# Altium footprint library EliteSTM32.PcbLib: 39 footprints (part 1 of 3)
Each footprint in its own frame and in the unit in brackets; x right, y up, seen from the top. Pads: shape width x height; smd on the part's side, far side on the other; paste and mask are expansions set on the pad; w line width, h text height; cw(c..) or ccw(c..) is an arc to the next point about the centre after c.
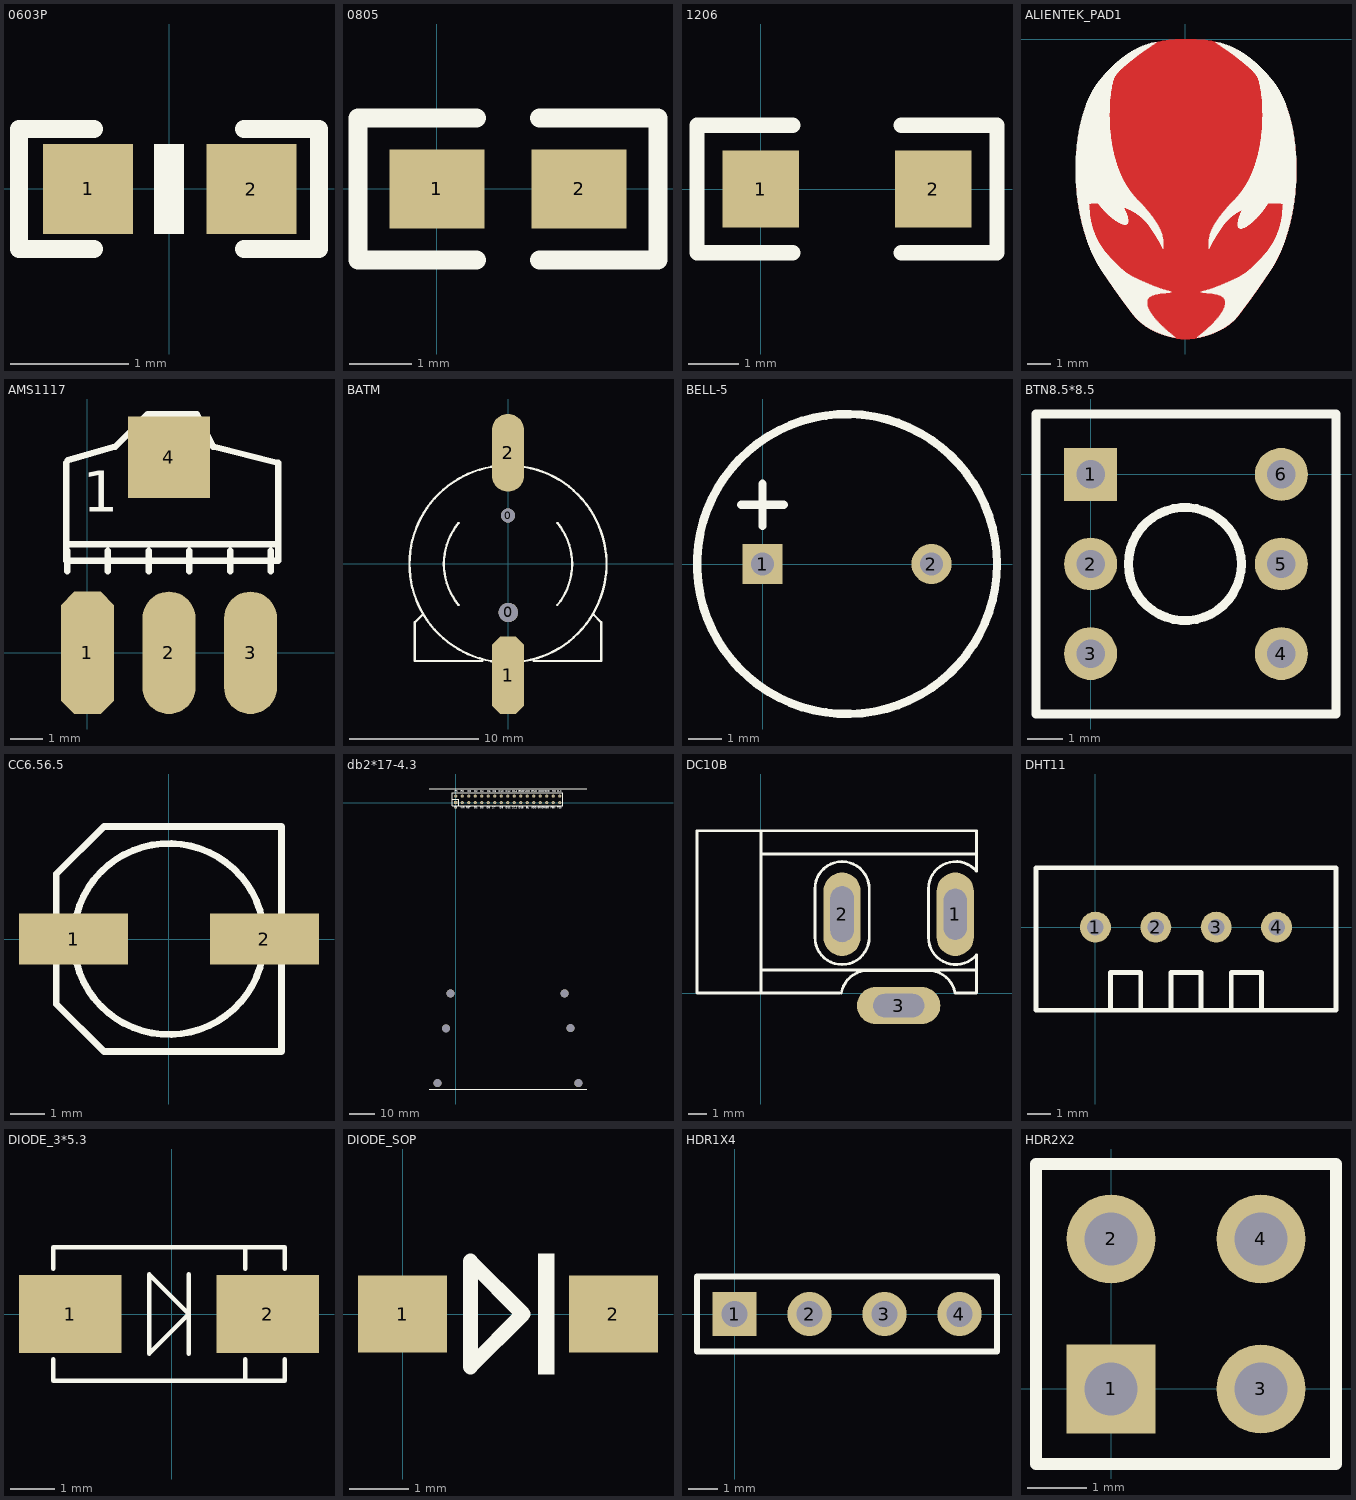
[diagram p0: the footprints below, top view; thin cyan lines are the x and y axes]

## 0603P [mil]
pads (2):
  rect 30x30 smd: 1(-27,0) 2(27.5,-0.06)
Top Overlay:
  region: 5,-15.06 5,14.94 -5,14.94 -5,-15.06
  lines w6: -25,-20.06 -50,-20.06 -50,19.94 -25,19.94 ; 25,-20.06 50,-20.06 50,19.94 25,19.94

## 0805 [mil]
pads (2):
  rect 60x50 smd: 1(0,-0.06) 2(90,-0.06)
Top Overlay:
  lines w12: 25,-45.06 -50,-45.06 -50,44.94 25,44.94 ; 65,-45.06 140,-45.06 140,44.94 65,44.94

## 1206 [mil]
pads (2):
  rect 60x60 smd: 1(0,0) 2(135,0)
Top Overlay:
  lines w12: 25,-50 -50,-50 -50,50 25,50 ; 110,-50 185,-50 185,50 110,50

## ALIENTEK_PAD1 [mil]
Top Layer:
  lines w0.55: -180.03,-234.3 183.7,-234.3 ; -180.03,-233.75 183.7,-233.75 ; -180.03,-233.2 183.7,-233.2 ; -180.03,-232.65 183.7,-232.65 ; -180.03,-232.1 183.7,-232.1 ; -180.03,-231.55 183.7,-231.55 ; -180.03,-231 183.7,-231 ; -180.03,-230.45 183.7,-230.45 ; -180.03,-229.9 183.7,-229.9 ; -180.03,-229.35 183.7,-229.35 ; -180.03,-228.8 183.7,-228.8 ; -180.03,-228.25 183.7,-228.25 ; -180.03,-227.7 183.7,-227.7 ; -180.03,-227.15 183.7,-227.15 ; -180.03,-226.6 183.7,-226.6 ; -180.03,-226.05 183.7,-226.05 ; -180.03,-225.5 183.7,-225.5 ; -180.03,-224.95 183.7,-224.95 ; -180.03,-224.4 183.7,-224.4 ; -180.03,-223.85 183.7,-223.85 ; -180.03,-223.3 183.7,-223.3 ; -180.03,-222.75 183.7,-222.75 ; -180.03,-222.2 183.7,-222.2 ; -180.03,-221.65 183.7,-221.65 ; -180.03,-221.1 183.7,-221.1 ; -180.03,-220.55 183.7,-220.55 ; -180.03,-220 183.7,-220 ; -180.03,-219.45 183.7,-219.45 ; -180.03,-218.9 183.7,-218.9 ; -180.03,-218.35 183.7,-218.35 ; -180.03,-217.8 183.7,-217.8 ; -180.03,-217.25 183.7,-217.25 ; -180.03,-216.7 183.7,-216.7 ; -180.03,-216.15 183.7,-216.15 ; -180.03,-215.6 183.7,-215.6 ; -180.03,-215.05 183.7,-215.05 ; -180.03,-214.5 183.7,-214.5 ; -180.03,-213.95 183.7,-213.95 ; -180.03,-213.4 183.7,-213.4 ; -180.03,-212.85 183.7,-212.85 ; -180.03,-212.3 183.7,-212.3 ; -180.03,-211.75 183.7,-211.75 ; -180.03,-211.2 183.7,-211.2 ; -180.03,-210.65 183.7,-210.65 ; -180.03,-210.1 183.7,-210.1 ; -180.03,-209.55 183.7,-209.55 ; -180.03,-209 183.7,-209 ; -180.03,-208.45 183.7,-208.45 ; -180.03,-207.9 183.7,-207.9 ; -180.03,-207.35 183.7,-207.35 ; -180.03,-206.8 183.7,-206.8 ; -180.03,-206.25 183.7,-206.25 ; -180.03,-205.7 183.7,-205.7 ; -180.03,-205.15 183.7,-205.15 ; -180.03,-204.6 183.7,-204.6 ; -180.03,-204.05 183.7,-204.05 ; -180.03,-203.5 183.7,-203.5 ; -180.03,-202.95 183.7,-202.95 ; -180.03,-202.4 183.7,-202.4 ; -180.03,-201.85 183.7,-201.85 ; -180.03,-201.3 183.7,-201.3 ; -180.03,-200.75 183.7,-200.75 ; -180.03,-200.2 183.7,-200.2 ; -180.03,-199.65 183.7,-199.65 ; -180.03,-199.1 183.7,-199.1 ; -180.03,-198.55 183.7,-198.55 ; -180.03,-198 183.7,-198 ; -180.03,-197.45 183.7,-197.45 ; -179.48,-243.65 183.15,-243.65 ; -179.48,-243.1 183.15,-243.1 ; -179.48,-242.55 183.15,-242.55 ; -179.48,-242 183.15,-242 ; -179.48,-241.45 183.15,-241.45 ; -179.48,-240.9 183.15,-240.9 ; -179.48,-240.35 183.15,-240.35 ; -179.48,-239.8 183.15,-239.8 ; -179.48,-239.25 183.15,-239.25 ; -179.48,-238.7 183.15,-238.7 ; -179.48,-238.15 183.15,-238.15 ; -179.48,-237.6 183.15,-237.6 ; -179.48,-237.05 183.15,-237.05 ; -179.48,-236.5 183.15,-236.5 ; -179.48,-235.95 183.15,-235.95 ; -179.48,-235.4 183.15,-235.4 ; -179.48,-234.85 183.15,-234.85 ; -179.48,-196.9 183.15,-196.9 ; -179.48,-196.35 183.15,-196.35 ; -179.48,-195.8 183.15,-195.8 ; -179.48,-195.25 183.15,-195.25 ; -179.48,-194.7 183.15,-194.7 ; -179.48,-194.15 183.15,-194.15 ; -179.48,-193.6 183.15,-193.6 ; -179.48,-193.05 183.15,-193.05 ; -179.48,-192.5 183.15,-192.5 ; -179.48,-191.95 183.15,-191.95 ; -179.48,-191.4 183.15,-191.4 ; -179.48,-190.85 183.15,-190.85 ; -179.48,-190.3 183.15,-190.3 ; -179.48,-189.75 183.15,-189.75 ; -179.48,-189.2 183.15,-189.2 ; -179.48,-188.65 183.15,-188.65 ; -178.93,-250.8 182.6,-250.8 ; -178.93,-250.25 182.6,-250.25 ; -178.93,-249.7 182.6,-249.7 ; -178.93,-249.15 182.6,-249.15 ; -178.93,-248.6 182.6,-248.6 ; -178.93,-248.05 182.6,-248.05 ; -178.93,-247.5 182.6,-247.5 ; -178.93,-246.95 182.6,-246.95 ; -178.93,-246.4 182.6,-246.4 ; -178.93,-245.85 182.6,-245.85 ; -178.93,-245.3 182.6,-245.3 ; -178.93,-244.75 182.6,-244.75 ; -178.93,-244.2 182.6,-244.2 ; -178.93,-188.1 182.6,-188.1 ; -178.93,-187.55 182.6,-187.55 ; -178.93,-187 182.6,-187 ; -178.93,-186.45 182.6,-186.45 ; -178.93,-185.9 182.6,-185.9 ; -178.93,-185.35 182.6,-185.35 ; -178.93,-184.8 182.6,-184.8 ; -178.93,-184.25 182.6,-184.25 ; -178.93,-183.7 182.6,-183.7 ; -178.93,-183.15 182.6,-183.15 ; -178.93,-182.6 182.6,-182.6 ; -178.38,-256.3 182.05,-256.3 ; -178.38,-255.75 182.05,-255.75 ; -178.38,-255.2 182.05,-255.2 ; -178.38,-254.65 182.05,-254.65 ; -178.38,-254.1 182.05,-254.1 ; -178.38,-253.55 182.05,-253.55 ; -178.38,-253 182.05,-253 ; -178.38,-252.45 182.05,-252.45 ; -178.38,-251.9 182.05,-251.9 ; -178.38,-251.35 182.05,-251.35 ; -178.38,-182.05 182.05,-182.05 ; -178.38,-181.5 182.05,-181.5 ; -178.38,-180.95 182.05,-180.95 ; -178.38,-180.4 182.05,-180.4 ; -178.38,-179.85 182.05,-179.85 ; -178.38,-179.3 182.05,-179.3 ; -178.38,-178.75 182.05,-178.75 ; -178.38,-178.2 182.05,-178.2 ; -178.38,-177.65 182.05,-177.65 ; -178.38,-177.1 182.05,-177.1 ; -177.83,-261.25 181.5,-261.25 ; -177.83,-260.7 181.5,-260.7 ; -177.83,-260.15 181.5,-260.15 ; -177.83,-259.6 181.5,-259.6 ; -177.83,-259.05 181.5,-259.05 ; -177.83,-258.5 181.5,-258.5 ; -177.83,-257.95 181.5,-257.95 ; -177.83,-257.4 181.5,-257.4 ; -177.83,-256.85 181.5,-256.85 ; -177.83,-176.55 181.5,-176.55 ; -177.83,-176 181.5,-176 ; -177.83,-175.45 181.5,-175.45 ; -177.83,-174.9 181.5,-174.9 ; -177.83,-174.35 181.5,-174.35 ; -177.83,-173.8 181.5,-173.8 ; -177.83,-173.25 181.5,-173.25 ; -177.83,-172.7 181.5,-172.7 ; -177.83,-172.15 181.5,-172.15 ; -177.28,-265.65 180.95,-265.65 ; -177.28,-265.1 180.95,-265.1 ; -177.28,-264.55 180.95,-264.55 ; -177.28,-264 180.95,-264 ; -177.28,-263.45 180.95,-263.45 ; -177.28,-262.9 180.95,-262.9 ; -177.28,-262.35 180.95,-262.35 ; -177.28,-261.8 180.95,-261.8 ; -177.28,-171.6 180.95,-171.6 ; -177.28,-171.05 180.95,-171.05 ; -177.28,-170.5 180.95,-170.5 ; -177.28,-169.95 180.95,-169.95 ; -177.28,-169.4 180.95,-169.4 ; -177.28,-168.85 180.95,-168.85 ; -177.28,-168.3 180.95,-168.3 ; -177.28,-167.75 180.95,-167.75 ; -176.73,-269.5 180.4,-269.5 ; -176.73,-268.95 180.4,-268.95 ; -176.73,-268.4 180.4,-268.4 ; -176.73,-267.85 180.4,-267.85 ; -176.73,-267.3 180.4,-267.3 ; -176.73,-266.75 180.4,-266.75 ; -176.73,-266.2 180.4,-266.2 ; -176.73,-167.2 180.4,-167.2 ; -176.73,-166.65 180.4,-166.65 ; -176.73,-166.1 180.4,-166.1 ; -176.73,-165.55 180.4,-165.55 ; -176.73,-165 180.4,-165 ; -176.73,-164.45 180.4,-164.45 ; -176.73,-163.9 180.4,-163.9 ; -176.18,-273.35 179.85,-273.35 ; -176.18,-272.8 179.85,-272.8 ; -176.18,-272.25 179.85,-272.25 ; -176.18,-271.7 179.85,-271.7 ; -176.18,-271.15 179.85,-271.15 ; -176.18,-270.6 179.85,-270.6 ; -176.18,-270.05 179.85,-270.05 ; -176.18,-163.35 179.85,-163.35 ; -176.18,-162.8 179.85,-162.8 ; -176.18,-162.25 179.85,-162.25 ; -176.18,-161.7 179.85,-161.7 ; -176.18,-161.15 179.85,-161.15 ; -176.18,-160.6 179.85,-160.6 ; -175.63,-277.2 179.3,-277.2 ; -175.63,-276.65 179.3,-276.65 ; -175.63,-276.1 179.3,-276.1 ; -175.63,-275.55 179.3,-275.55 ; -175.63,-275 179.3,-275 ; -175.63,-274.45 179.3,-274.45 ; -175.63,-273.9 179.3,-273.9 ; -175.63,-160.05 179.3,-160.05 ; -175.63,-159.5 179.3,-159.5 ; -175.63,-158.95 179.3,-158.95 ; -175.63,-158.4 179.3,-158.4 ; -175.63,-157.85 179.3,-157.85 ; -175.63,-157.3 179.3,-157.3 ; -175.08,-280.5 178.75,-280.5 ; -175.08,-279.95 178.75,-279.95 ; -175.08,-279.4 178.75,-279.4 ; -175.08,-278.85 178.75,-278.85 ; -175.08,-278.3 178.75,-278.3 ; -175.08,-277.75 178.75,-277.75 ; -175.08,-156.75 178.75,-156.75 ; -175.08,-156.2 178.75,-156.2 ; -175.08,-155.65 178.75,-155.65 ; -175.08,-155.1 178.75,-155.1 ; -175.08,-154.55 178.75,-154.55 ; -175.08,-154 178.75,-154 ; -174.53,-283.25 178.2,-283.25 ; -174.53,-282.7 178.2,-282.7 ; -174.53,-282.15 178.2,-282.15 ; -174.53,-281.6 178.2,-281.6 ; -174.53,-281.05 178.2,-281.05 ; -174.53,-153.45 178.2,-153.45 ; -174.53,-152.9 178.2,-152.9 ; -174.53,-152.35 178.2,-152.35 ; -174.53,-151.8 178.2,-151.8 ; -174.53,-151.25 178.2,-151.25 ; -173.98,-286.55 177.65,-286.55 ; -173.98,-286 177.65,-286 ; -173.98,-285.45 177.65,-285.45 ; -173.98,-284.9 177.65,-284.9 ; -173.98,-284.35 177.65,-284.35 ; -173.98,-283.8 177.65,-283.8 ; -173.98,-150.7 177.65,-150.7 ; -173.98,-150.15 177.65,-150.15 ; -173.98,-149.6 177.65,-149.6 ; -173.98,-149.05 177.65,-149.05 ; -173.98,-148.5 177.65,-148.5 ; -173.98,-147.95 177.65,-147.95 ; -173.43,-289.3 177.1,-289.3 ; -173.43,-288.75 177.1,-288.75 ; -173.43,-288.2 177.1,-288.2 ; -173.43,-287.65 177.1,-287.65 ; -173.43,-287.1 177.1,-287.1 ; -173.43,-147.4 177.1,-147.4 ; -173.43,-146.85 177.1,-146.85 ; -173.43,-146.3 177.1,-146.3 ; -173.43,-145.75 177.1,-145.75 ; -172.88,-292.05 176.55,-292.05 ; -172.88,-291.5 176.55,-291.5 ; -172.88,-290.95 176.55,-290.95 ; -172.88,-290.4 176.55,-290.4 ; -172.88,-289.85 176.55,-289.85 ; -172.88,-145.2 176.55,-145.2 ; -172.88,-144.65 176.55,-144.65 ; -172.88,-144.1 176.55,-144.1 ; -172.88,-143.55 176.55,-143.55 ; -172.88,-143 176.55,-143 ; -172.33,-294.8 176,-294.8 ; -172.33,-294.25 176,-294.25 ; -172.33,-293.7 176,-293.7 ; -172.33,-293.15 176,-293.15 ; -172.33,-292.6 176,-292.6 ; -172.33,-142.45 176,-142.45 ; -172.33,-141.9 176,-141.9 ; -172.33,-141.35 176,-141.35 ; -172.33,-140.8 176,-140.8 ; -171.78,-297 175.45,-297 ; -171.78,-296.45 175.45,-296.45 ; -171.78,-295.9 175.45,-295.9 ; -171.78,-295.35 175.45,-295.35 ; -171.78,-140.25 175.45,-140.25 ; -171.78,-139.7 175.45,-139.7 ; -171.78,-139.15 175.45,-139.15 ; -171.78,-138.6 175.45,-138.6 ; -171.78,-138.05 175.45,-138.05 ; -171.23,-299.75 174.9,-299.75 ; -171.23,-299.2 174.9,-299.2 ; -171.23,-298.65 174.9,-298.65 ; -171.23,-298.1 174.9,-298.1 ; -171.23,-297.55 174.9,-297.55 ; -171.23,-137.5 174.9,-137.5 ; -171.23,-136.95 174.9,-136.95 ; -171.23,-136.4 174.9,-136.4 ; -171.23,-135.85 174.9,-135.85 ; -170.68,-301.95 174.35,-301.95 ; -170.68,-301.4 174.35,-301.4 ; -170.68,-300.85 174.35,-300.85 ; -170.68,-300.3 174.35,-300.3 ; -170.68,-135.3 174.35,-135.3 ; -170.68,-134.75 174.35,-134.75 ; -170.68,-134.2 174.35,-134.2 ; -170.68,-133.65 174.35,-133.65 ; -170.13,-304.15 173.8,-304.15 ; -170.13,-303.6 173.8,-303.6 ; -170.13,-303.05 173.8,-303.05 ; -170.13,-302.5 173.8,-302.5 ; -170.13,-133.1 173.8,-133.1 ; -170.13,-132.55 173.8,-132.55 ; -170.13,-132 173.8,-132 ; -169.58,-306.35 173.25,-306.35 ; -169.58,-305.8 173.25,-305.8 ; -169.58,-305.25 173.25,-305.25 ; -169.58,-304.7 173.25,-304.7 ; -169.58,-131.45 173.25,-131.45 ; -169.58,-130.9 173.25,-130.9 ; -169.58,-130.35 173.25,-130.35 ; -169.58,-129.8 173.25,-129.8 ; -169.03,-308.55 172.7,-308.55 ; -169.03,-308 172.7,-308 ; -169.03,-307.45 172.7,-307.45 ; -169.03,-306.9 172.7,-306.9 ; -169.03,-129.25 172.7,-129.25 ; -169.03,-128.7 172.7,-128.7 ; -169.03,-128.15 172.7,-128.15 ; -169.03,-127.6 172.7,-127.6 ; -168.48,-310.75 172.15,-310.75 ; -168.48,-310.2 172.15,-310.2 ; -168.48,-309.65 172.15,-309.65 ; -168.48,-309.1 172.15,-309.1 ; -168.48,-127.05 172.15,-127.05 ; -168.48,-126.5 172.15,-126.5 ; -168.48,-125.95 172.15,-125.95 ; -167.93,-312.4 171.6,-312.4 ; -167.93,-311.85 171.6,-311.85 ; -167.93,-311.3 171.6,-311.3 ; -167.93,-125.4 171.6,-125.4 ; -167.93,-124.85 171.6,-124.85 ; -167.93,-124.3 171.6,-124.3 ; -167.93,-123.75 171.6,-123.75 ; -167.38,-314.05 171.05,-314.05 ; -167.38,-313.5 171.05,-313.5 ; -167.38,-312.95 171.05,-312.95 ; -167.38,-123.2 171.05,-123.2 ; -167.38,-122.65 171.05,-122.65 ; -167.38,-122.1 171.05,-122.1 ; -166.83,-316.25 170.5,-316.25 ; -166.83,-315.7 170.5,-315.7 ; -166.83,-315.15 170.5,-315.15 ; -166.83,-314.6 170.5,-314.6 ; -166.83,-121.55 170.5,-121.55 ; -166.83,-121 170.5,-121 ; -166.83,-120.45 170.5,-120.45 ; -166.28,-317.9 169.95,-317.9 ; -166.28,-317.35 169.95,-317.35 ; -166.28,-316.8 169.95,-316.8 ; -166.28,-119.9 169.95,-119.9 ; -166.28,-119.35 169.95,-119.35 ; -166.28,-118.8 169.95,-118.8 ; -165.73,-319.55 169.4,-319.55 ; -165.73,-319 169.4,-319 ; -165.73,-318.45 169.4,-318.45 ; -165.73,-118.25 169.4,-118.25 ; -165.73,-117.7 169.4,-117.7 ; -165.73,-117.15 169.4,-117.15 ; -165.18,-321.75 168.85,-321.75 ; -165.18,-321.2 168.85,-321.2 ; -165.18,-320.65 168.85,-320.65 ; -165.18,-320.1 168.85,-320.1 ; -165.18,-116.6 168.85,-116.6 ; -165.18,-116.05 168.85,-116.05 ; -165.18,-115.5 168.85,-115.5 ; -164.63,-323.4 168.3,-323.4 ; -164.63,-322.85 168.3,-322.85 ; -164.63,-322.3 168.3,-322.3 ; -164.63,-114.95 168.3,-114.95 ; -164.63,-114.4 168.3,-114.4 ; -164.63,-113.85 168.3,-113.85 ; -164.08,-325.05 167.75,-325.05 ; -164.08,-324.5 167.75,-324.5 ; -164.08,-323.95 167.75,-323.95 ; -164.08,-113.3 167.75,-113.3 ; -164.08,-112.75 167.75,-112.75 ; -164.08,-112.2 167.75,-112.2 ; -163.53,-326.7 167.2,-326.7 ; -163.53,-326.15 167.2,-326.15 ; -163.53,-325.6 167.2,-325.6 ; -163.53,-111.65 167.2,-111.65 ; -163.53,-111.1 167.2,-111.1 ; -162.98,-328.35 166.65,-328.35 ; -162.98,-327.8 166.65,-327.8 ; -162.98,-327.25 166.65,-327.25 ; -162.98,-110.55 166.65,-110.55 ; -162.98,-110 166.65,-110 ; -162.98,-109.45 166.65,-109.45 ; -162.43,-330 166.1,-330 ; -162.43,-329.45 166.1,-329.45 ; -162.43,-328.9 166.1,-328.9 ; -162.43,-108.9 166.1,-108.9 ; -162.43,-108.35 166.1,-108.35 ; -162.43,-107.8 166.1,-107.8 ; -161.88,-331.65 165.55,-331.65 ; -161.88,-331.1 165.55,-331.1 ; -161.88,-330.55 165.55,-330.55 ; -161.88,-107.25 165.55,-107.25 ; -161.88,-106.7 165.55,-106.7 ; -161.33,-333.3 165,-333.3 ; -161.33,-332.75 165,-332.75 ; -161.33,-332.2 165,-332.2 ; -161.33,-106.15 165,-106.15 ; -161.33,-105.6 165,-105.6 ; -161.33,-105.05 165,-105.05 ; -160.78,-334.95 164.45,-334.95 ; -160.78,-334.4 164.45,-334.4 ; -160.78,-333.85 164.45,-333.85 ; -160.78,-104.5 164.45,-104.5 ; -160.78,-103.95 164.45,-103.95 ; -160.23,-336.05 163.9,-336.05 ; -160.23,-335.5 163.9,-335.5 ; -160.23,-103.4 163.9,-103.4 ; -160.23,-102.85 163.9,-102.85 ; -159.68,-337.7 163.35,-337.7 ; -159.68,-337.15 163.35,-337.15 ; -159.68,-336.6 163.35,-336.6 ; -159.68,-102.3 163.35,-102.3 ; -159.68,-101.75 163.35,-101.75 ; -159.68,-101.2 163.35,-101.2 ; -159.13,-339.35 162.8,-339.35 ; -159.13,-338.8 162.8,-338.8 ; -159.13,-338.25 162.8,-338.25 ; -159.13,-100.65 162.8,-100.65 ; -159.13,-100.1 162.8,-100.1 ; -158.58,-340.45 162.25,-340.45 ; -158.58,-339.9 162.25,-339.9 ; -158.58,-99.55 162.25,-99.55 ; -158.58,-99 162.25,-99 ; -158.03,-342.1 161.7,-342.1 ; -158.03,-341.55 161.7,-341.55 ; -158.03,-341 161.7,-341 ; -158.03,-98.45 161.7,-98.45 ; -158.03,-97.9 161.7,-97.9 ; -157.48,-343.2 161.15,-343.2 ; -157.48,-342.65 161.15,-342.65 ; -157.48,-97.35 161.15,-97.35 ; -157.48,-96.8 161.15,-96.8 ; -156.93,-344.85 160.6,-344.85 ; -156.93,-344.3 160.6,-344.3 ; -156.93,-343.75 160.6,-343.75 ; -156.93,-96.25 160.6,-96.25 ; -156.93,-95.7 160.6,-95.7 ; -156.93,-95.15 160.6,-95.15 ; -156.38,-345.95 160.05,-345.95 ; -156.38,-345.4 160.05,-345.4 ; -156.38,-94.6 160.05,-94.6 ; -156.38,-94.05 160.05,-94.05 ; -155.83,-347.6 159.5,-347.6 ; -155.83,-347.05 159.5,-347.05 ; -155.83,-346.5 159.5,-346.5 ; -155.83,-93.5 159.5,-93.5 ; -155.83,-92.95 159.5,-92.95 ; -155.28,-348.7 158.95,-348.7 ; -155.28,-348.15 158.95,-348.15 ; -155.28,-92.4 158.95,-92.4 ; -155.28,-91.85 158.95,-91.85 ; -154.73,-349.8 158.4,-349.8 ; -154.73,-349.25 158.4,-349.25 ; -154.73,-91.3 158.4,-91.3 ; -154.18,-351.45 157.85,-351.45 ; -154.18,-350.9 157.85,-350.9 ; -154.18,-350.35 157.85,-350.35 ; -154.18,-90.75 157.85,-90.75 ; -154.18,-90.2 157.85,-90.2 ; -153.63,-352.55 157.3,-352.55 ; -153.63,-352 157.3,-352 ; -153.63,-89.65 157.3,-89.65 ; -153.63,-89.1 157.3,-89.1 ; -153.08,-353.65 156.75,-353.65 ; -153.08,-353.1 156.75,-353.1 ; -153.08,-88.55 156.75,-88.55 ; -153.08,-88 156.75,-88 ; -152.53,-354.75 156.2,-354.75 ; -152.53,-354.2 156.2,-354.2 ; -152.53,-87.45 156.2,-87.45 ; -152.53,-86.9 156.2,-86.9 ; -151.98,-355.85 155.65,-355.85 ; -151.98,-355.3 155.65,-355.3 ; -151.98,-86.35 155.65,-86.35 ; -151.98,-85.8 155.65,-85.8 ; -151.43,-356.95 155.1,-356.95 ; -151.43,-356.4 155.1,-356.4 ; -151.43,-85.25 155.1,-85.25 ; -150.88,-358.6 154.55,-358.6 ; -150.88,-358.05 154.55,-358.05 ; -150.88,-357.5 154.55,-357.5 ; -150.88,-84.7 154.55,-84.7 ; -150.88,-84.15 154.55,-84.15 ; -150.33,-359.7 154,-359.7 ; -150.33,-359.15 154,-359.15 ; -150.33,-83.6 154,-83.6 ; -150.33,-83.05 154,-83.05 ; -149.78,-360.8 153.45,-360.8 ; -149.78,-360.25 153.45,-360.25 ; -149.78,-82.5 153.45,-82.5 ; -149.23,-361.9 152.9,-361.9 ; -149.23,-361.35 152.9,-361.35 ; -149.23,-81.95 152.9,-81.95 ; -149.23,-81.4 152.9,-81.4 ; -148.68,-363 152.35,-363 ; -148.68,-362.45 152.35,-362.45 ; -148.68,-80.85 152.35,-80.85 ; -148.13,-364.1 151.8,-364.1 ; -148.13,-363.55 151.8,-363.55 ; -148.13,-80.3 151.8,-80.3 ; -148.13,-79.75 151.8,-79.75 ; -147.58,-365.2 151.25,-365.2 ; -147.58,-364.65 151.25,-364.65 ; -147.58,-79.2 151.25,-79.2 ; -147.58,-78.65 151.25,-78.65 ; -147.03,-365.75 150.7,-365.75 ; -147.03,-78.1 150.7,-78.1 ; -146.48,-366.85 150.15,-366.85 ; -146.48,-366.3 150.15,-366.3 ; -146.48,-77.55 150.15,-77.55 ; -146.48,-77 150.15,-77 ; -145.93,-367.95 149.6,-367.95 ; -145.93,-367.4 149.6,-367.4 ; -145.93,-76.45 149.6,-76.45 ; -145.38,-369.05 149.05,-369.05 ; -145.38,-368.5 149.05,-368.5 ; -145.38,-75.9 149.05,-75.9 ; -144.83,-370.15 148.5,-370.15 ; -144.83,-369.6 148.5,-369.6 ; -144.83,-75.35 148.5,-75.35 ; -144.83,-74.8 148.5,-74.8 ; -144.28,-371.25 147.95,-371.25 ; -144.28,-370.7 147.95,-370.7 ; -144.28,-74.25 147.95,-74.25 ; -143.73,-371.8 147.4,-371.8 ; -143.73,-73.7 147.4,-73.7 ; -143.18,-372.9 146.85,-372.9 ; -143.18,-372.35 146.85,-372.35 ; -143.18,-73.15 146.85,-73.15 ; -143.18,-72.6 146.85,-72.6 ; -142.63,-374 146.3,-374 ; -142.63,-373.45 146.3,-373.45 ; -142.63,-72.05 146.3,-72.05 ; -142.08,-375.1 145.75,-375.1 ; -142.08,-374.55 145.75,-374.55 ; -142.08,-71.5 145.75,-71.5 ; -141.53,-375.65 145.2,-375.65 ; -141.53,-70.95 145.2,-70.95 ; -141.53,-70.4 145.2,-70.4 ; -140.98,-376.75 144.65,-376.75 ; -140.98,-376.2 144.65,-376.2 ; -140.98,-69.85 144.65,-69.85 ; -140.43,-377.3 144.1,-377.3 ; -140.43,-69.3 144.1,-69.3 ; -139.88,-378.4 143.55,-378.4 ; -139.88,-377.85 143.55,-377.85 ; -139.88,-68.75 143.55,-68.75 ; -139.33,-379.5 143,-379.5 ; -139.33,-378.95 143,-378.95 ; -139.33,-68.2 143,-68.2 ; -139.33,-67.65 143,-67.65 ; -138.78,-380.05 142.45,-380.05 ; -138.78,-67.1 142.45,-67.1 ; -138.23,-381.15 141.9,-381.15 ; -138.23,-380.6 141.9,-380.6 ; -138.23,-66.55 141.9,-66.55 ; -137.68,-381.7 141.35,-381.7 ; -137.68,-66 141.35,-66 ; -137.13,-382.8 140.8,-382.8 ; -137.13,-382.25 140.8,-382.25 ; -137.13,-65.45 140.8,-65.45 ; -136.58,-383.35 140.25,-383.35 ; -136.58,-64.9 140.25,-64.9 ; -136.58,-64.35 140.25,-64.35 ; -136.03,-384.45 139.7,-384.45 ; -136.03,-383.9 139.7,-383.9 ; -136.03,-63.8 139.7,-63.8 ; -135.48,-385 139.15,-385 ; -135.48,-63.25 139.15,-63.25 ; -134.93,-386.1 138.6,-386.1 ; -134.93,-385.55 138.6,-385.55 ; -134.93,-62.7 138.6,-62.7 ; -134.38,-386.65 138.05,-386.65 ; -134.38,-62.15 138.05,-62.15 ; -133.83,-387.75 137.5,-387.75 ; -133.83,-387.2 137.5,-387.2 ; -133.83,-61.6 137.5,-61.6 ; -133.28,-388.3 136.95,-388.3 ; -133.28,-61.05 136.95,-61.05 ; -133.28,-60.5 136.95,-60.5 ; -132.73,-389.4 136.4,-389.4 ; -132.73,-388.85 136.4,-388.85 ; -132.73,-59.95 136.4,-59.95 ; -132.18,-389.95 135.85,-389.95 ; -132.18,-59.4 135.85,-59.4 ; -131.63,-391.05 135.3,-391.05 ; -131.63,-390.5 135.3,-390.5 ; -131.63,-58.85 135.3,-58.85 ; -131.08,-391.6 134.75,-391.6 ; -131.08,-58.3 134.75,-58.3 ; -130.53,-392.7 134.2,-392.7 ; -130.53,-392.15 134.2,-392.15 ; -130.53,-57.75 134.2,-57.75 ; -129.98,-393.25 133.65,-393.25 ; -129.98,-57.2 133.65,-57.2 ; -129.43,-394.35 133.1,-394.35 ; -129.43,-393.8 133.1,-393.8 ; -129.43,-56.65 133.1,-56.65 ; -128.88,-394.9 132.55,-394.9 ; -128.88,-56.1 132.55,-56.1 ; -128.33,-396 132,-396 ; -128.33,-395.45 132,-395.45 ; -128.33,-55.55 132,-55.55 ; -128.33,-55 132,-55 ; -127.78,-396.55 131.45,-396.55 ; -127.78,-54.45 131.45,-54.45 ; -127.23,-397.65 130.9,-397.65 ; -127.23,-397.1 130.9,-397.1 ; -127.23,-53.9 130.9,-53.9 ; -126.68,-398.2 130.35,-398.2 ; -126.68,-53.35 130.35,-53.35 ; -126.13,-399.3 129.8,-399.3 ; -126.13,-398.75 129.8,-398.75 ; -126.13,-52.8 129.8,-52.8 ; -125.58,-399.85 129.25,-399.85 ; -125.58,-52.25 129.25,-52.25 ; -125.03,-400.95 128.7,-400.95 ; -125.03,-400.4 128.7,-400.4 ; -125.03,-51.7 128.7,-51.7 ; -124.48,-401.5 128.15,-401.5 ; -124.48,-51.15 128.15,-51.15 ; -123.93,-402.05 127.6,-402.05 ; -123.93,-50.6 127.6,-50.6 ; -123.38,-403.15 127.05,-403.15 ; -123.38,-402.6 127.05,-402.6 ; -123.38,-50.05 127.05,-50.05 ; -122.83,-403.7 126.5,-403.7 ; -122.83,-49.5 126.5,-49.5 ; -122.28,-404.8 125.95,-404.8 ; -122.28,-404.25 125.95,-404.25 ; -122.28,-48.95 125.95,-48.95 ; -121.73,-405.35 125.4,-405.35 ; -121.73,-48.4 125.4,-48.4 ; -121.18,-406.45 124.85,-406.45 ; -121.18,-405.9 124.85,-405.9 ; -121.18,-47.85 124.85,-47.85 ; -120.63,-407 124.3,-407 ; -120.63,-47.3 124.3,-47.3 ; -120.08,-408.1 123.75,-408.1 ; -120.08,-407.55 123.75,-407.55 ; -120.08,-46.75 123.75,-46.75 ; -119.53,-408.65 123.2,-408.65 ; -119.53,-46.2 123.2,-46.2 ; -118.98,-409.2 122.65,-409.2 ; -118.98,-45.65 122.65,-45.65 ; -118.43,-410.3 122.1,-410.3 ; -118.43,-409.75 122.1,-409.75 ; -118.43,-45.1 122.1,-45.1 ; -117.88,-411.4 121.55,-411.4 ; -117.88,-410.85 121.55,-410.85 ; -117.88,-44.55 121.55,-44.55 ; -117.33,-411.95 121,-411.95 ; -116.78,-413.05 120.45,-413.05 ; -116.78,-412.5 120.45,-412.5 ; -116.78,-44 120.45,-44 ; -116.23,-413.6 119.9,-413.6 ; -116.23,-43.45 119.9,-43.45 ; -115.68,-414.15 119.35,-414.15 ; -115.68,-42.9 119.35,-42.9 ; -115.13,-415.25 118.8,-415.25 ; -115.13,-414.7 118.8,-414.7 ; -115.13,-42.35 118.8,-42.35 ; -114.58,-415.8 118.25,-415.8 ; -114.58,-41.8 118.25,-41.8 ; -114.03,-416.9 117.7,-416.9 ; -114.03,-416.35 117.7,-416.35 ; -114.03,-41.25 117.7,-41.25 ; -113.48,-417.45 117.15,-417.45 ; -113.48,-40.7 117.15,-40.7 ; -112.93,-418 116.6,-418 ; -112.93,-40.15 116.6,-40.15 ; -112.38,-419.1 116.05,-419.1 ; -112.38,-418.55 116.05,-418.55 ; -112.38,-39.6 116.05,-39.6 ; -111.83,-419.65 115.5,-419.65 ; -111.28,-420.75 114.95,-420.75 ; -111.28,-420.2 114.95,-420.2 ; -111.28,-39.05 114.95,-39.05 ; -110.73,-421.3 114.4,-421.3 ; -110.73,-38.5 114.4,-38.5 ; -110.18,-421.85 113.85,-421.85 ; -110.18,-37.95 113.85,-37.95 ; -109.63,-422.95 113.3,-422.95 ; -109.63,-422.4 113.3,-422.4 ; -109.63,-37.4 113.3,-37.4 ; -109.08,-423.5 112.75,-423.5 ; -109.08,-36.85 112.75,-36.85 ; -108.53,-424.6 112.2,-424.6 ; -108.53,-424.05 112.2,-424.05 ; -107.98,-425.15 111.65,-425.15 ; -107.98,-36.3 111.65,-36.3 ; -107.43,-425.7 111.1,-425.7 ; -107.43,-35.75 111.1,-35.75 ; -106.88,-426.8 110.55,-426.8 ; -106.88,-426.25 110.55,-426.25 ; -106.88,-35.2 110.55,-35.2 ; -106.33,-427.35 110,-427.35 ; -106.33,-34.65 110,-34.65 ; -105.78,-428.45 109.45,-428.45 ; -105.78,-427.9 109.45,-427.9 ; -105.23,-429 108.9,-429 ; -105.23,-34.1 108.9,-34.1 ; -104.68,-429.55 108.35,-429.55 ; -104.68,-33.55 108.35,-33.55 ; -104.13,-430.65 107.8,-430.65 ; -104.13,-430.1 107.8,-430.1 ; -104.13,-33 107.8,-33 ; -103.58,-431.2 107.25,-431.2 ; -103.58,-32.45 107.25,-32.45 ; -103.03,-432.3 106.7,-432.3 ; -103.03,-431.75 106.7,-431.75 ; -102.48,-432.85 106.15,-432.85 ; -102.48,-31.9 106.15,-31.9 ; -101.93,-433.4 105.6,-433.4 ; -101.93,-31.35 105.6,-31.35 ; -101.38,-434.5 105.05,-434.5 ; -101.38,-433.95 105.05,-433.95 ; -101.38,-30.8 105.05,-30.8 ; -100.83,-435.05 104.5,-435.05 ; -100.28,-435.6 103.95,-435.6 ; -100.28,-30.25 103.95,-30.25 ; -99.73,-436.7 103.4,-436.7 ; -99.73,-436.15 103.4,-436.15 ; -99.73,-29.7 103.4,-29.7 ; -99.18,-437.25 102.85,-437.25 ; -99.18,-29.15 102.85,-29.15 ; -98.63,-437.8 102.3,-437.8 ; -98.08,-438.9 101.75,-438.9 ; -98.08,-438.35 101.75,-438.35 ; -98.08,-28.6 101.75,-28.6 ; -97.53,-439.45 101.2,-439.45 ; -97.53,-28.05 101.2,-28.05 ; -96.98,-440 100.65,-440 ; -96.43,-441.1 100.1,-441.1 ; -96.43,-440.55 100.1,-440.55 ; -96.43,-27.5 100.1,-27.5 ; -95.88,-441.65 99.55,-441.65 ; -95.88,-26.95 99.55,-26.95 ; -95.33,-442.2 99,-442.2 ; -94.78,-443.3 98.45,-443.3 ; -94.78,-442.75 98.45,-442.75 ; -94.78,-26.4 98.45,-26.4 ; -94.23,-443.85 97.9,-443.85 ; -94.23,-25.85 97.9,-25.85 ; -93.68,-444.4 97.35,-444.4 ; -93.13,-445.5 96.8,-445.5 ; -93.13,-444.95 96.8,-444.95 ; -93.13,-25.3 96.8,-25.3 ; -92.58,-446.05 96.25,-446.05 ; -92.58,-24.75 96.25,-24.75 ; -92.03,-446.6 95.7,-446.6 ; -91.48,-447.7 95.15,-447.7 ; -91.48,-447.15 95.15,-447.15 ; -91.48,-24.2 95.15,-24.2 ; -90.93,-448.25 94.6,-448.25 ; -90.93,-23.65 94.6,-23.65 ; -90.38,-449.35 93.5,-449.35 ; -90.38,-448.8 94.05,-448.8 ; -89.83,-449.9 93.5,-449.9 ; -89.83,-23.1 93.5,-23.1 ; -89.28,-450.45 92.95,-450.45 ; -89.28,-22.55 92.95,-22.55 ; -88.73,-451.55 92.4,-451.55 ; -88.73,-451 92.95,-451 ; -88.18,-452.1 91.85,-452.1 ; -88.18,-22 91.85,-22 ; -87.63,-452.65 91.3,-452.65 ; -87.08,-453.2 90.75,-453.2 ; -87.08,-21.45 90.75,-21.45 ; -86.53,-454.3 90.2,-454.3 ; -86.53,-453.75 90.75,-453.75 ; -86.53,-20.9 90.2,-20.9 ; -85.98,-454.85 89.65,-454.85 ; -85.43,-455.4 89.1,-455.4 ; -85.43,-20.35 89.1,-20.35 ; -84.88,-455.95 89.1,-455.95 ; -84.33,-457.05 88,-457.05 ; -84.33,-456.5 88.55,-456.5 ; -84.33,-19.8 88,-19.8 ; -83.78,-457.6 87.45,-457.6 ; -83.23,-458.15 87.45,-458.15 ; -83.23,-19.25 86.9,-19.25 ; -82.68,-458.7 86.9,-458.7 ; -82.68,-18.7 86.35,-18.7 ; -82.13,-459.25 86.35,-459.25 ; -81.58,-459.8 85.8,-459.8 ; -81.58,-18.15 85.25,-18.15 ; -81.03,-460.35 85.25,-460.35 ; -80.48,-460.9 84.7,-460.9 ; -80.48,-17.6 84.15,-17.6 ; -79.93,-461.45 84.15,-461.45 ; -79.38,-462 83.6,-462 ; -79.38,-17.05 83.6,-17.05 ; -78.83,-462.55 83.05,-462.55 ; -78.28,-463.1 82.5,-463.1 ; -78.28,-16.5 82.5,-16.5 ; -77.73,-463.65 81.95,-463.65 ; -77.18,-464.2 81.4,-464.2 ; -77.18,-15.95 81.4,-15.95 ; -76.63,-464.75 80.85,-464.75 ; -76.08,-465.3 80.3,-465.3 ; -76.08,-15.4 79.75,-15.4 ; -75.53,-465.85 79.75,-465.85 ; -74.98,-466.4 79.2,-466.4 ; -74.98,-14.85 0,-14.85 78.65,-14.85 ; -74.43,-466.95 78.65,-466.95 ; -73.88,-467.5 78.1,-467.5 ; -73.88,-14.3 0,-14.3 77.55,-14.3 ; -72.78,-468.05 77.55,-468.05 ; -72.23,-468.6 76.45,-468.6 ; -72.23,-13.75 0,-13.75 75.9,-13.75 ; -71.68,-469.15 75.9,-469.15 ; -71.13,-469.7 75.35,-469.7 ; -71.13,-13.2 0,-13.2 74.8,-13.2 ; -70.58,-470.25 74.8,-470.25 ; -70.03,-12.65 0,-12.65 73.7,-12.65 ; -69.48,-470.8 73.7,-470.8 ; -68.93,-471.35 73.15,-471.35 ; -68.93,-12.1 0,-12.1 72.05,-12.1 ; -68.38,-471.9 72.6,-471.9 ; -67.28,-472.45 71.5,-472.45 ; -67.28,-11.55 0,-11.55 70.95,-11.55 ; -66.73,-473 70.95,-473 ; -66.18,-473.55 70.4,-473.55 ; -65.63,-11 0,-11 69.3,-11 ; -65.08,-474.1 69.3,-474.1 ; -64.53,-474.65 68.75,-474.65 ; -64.53,-10.45 0,-10.45 67.65,-10.45 ; -63.43,-475.2 67.65,-475.2 ; -62.88,-475.75 67.1,-475.75 ; -62.88,-9.9 0,-9.9 66,-9.9 ; -61.78,-476.3 66,-476.3 ; -61.23,-476.85 65.45,-476.85 ; -61.23,-9.35 -2.5,-9.35 0,-9.35 64.35,-9.35 ; -60.13,-477.4 64.35,-477.4 ; -59.58,-8.8 -2.5,-8.8 0,-8.8 63.25,-8.8 ; -59.03,-477.95 63.8,-477.95 ; -57.93,-478.5 62.15,-478.5 ; -57.93,-8.25 -2.5,-8.25 0,-8.25 61.6,-8.25 ; -57.38,-479.05 61.05,-479.05 ; -56.28,-479.6 59.95,-479.6 ; -55.73,-7.7 -2.5,-7.7 0,-7.7 59.95,-7.7 ; -55.18,-480.15 58.85,-480.15 ; -54.08,-480.7 58.3,-480.7 ; -54.08,-7.15 -2.5,-7.15 0,-7.15 58.3,-7.15 ; -53.53,-481.25 57.2,-481.25 ; -52.43,-481.8 56.1,-481.8 ; -51.88,-6.6 -2.5,-6.6 0,-6.6 56.65,-6.6 ; -51.33,-482.35 54.45,-482.35 ; -50.23,-482.9 -50.05,-482.9 ; -50.23,-6.05 -2.5,-6.05 0,-6.05 55,-6.05 ; -49.13,-483.45 -48.95,-483.45 ; -49.13,-482.9 53.35,-482.9 ; -48.03,-483.45 52.25,-483.45 ; -48.03,-5.5 -2.5,-5.5 0,-5.5 53.35,-5.5 ; -46.93,-484 51.15,-484 ; -45.28,-484.55 49.5,-484.55 ; -45.28,-4.95 -2.5,-4.95 0,-4.95 51.15,-4.95 ; -44.18,-485.1 48.4,-485.1 ; -43.08,-485.65 47.3,-485.65 ; -43.08,-4.4 -2.5,-4.4 0,-4.4 48.95,-4.4 ; -41.43,-486.2 45.65,-486.2 ; -40.33,-3.85 -2.5,-3.85 0,-3.85 46.75,-3.85 ; -39.78,-486.75 44,-486.75 ; -38.68,-487.3 42.9,-487.3 ; -37.58,-3.3 -2.5,-3.3 0,-3.3 44,-3.3 ; -37.03,-487.85 41.25,-487.85 ; -35.38,-488.4 39.6,-488.4 ; -34.28,-2.75 -2.5,-2.75 0,-2.75 41.25,-2.75 ; -33.73,-488.95 37.95,-488.95 ; -32.08,-489.5 36.3,-489.5 ; -30.98,-2.2 -2.5,-2.2 0,-2.2 37.4,-2.2 ; -29.88,-490.05 34.65,-490.05 ; -28.23,-490.6 32.45,-490.6 ; -26.58,-1.65 -2.5,-1.65 0,-1.65 33,-1.65 ; -26.03,-491.15 30.8,-491.15 ; -23.83,-491.7 28.6,-491.7 ; -22.18,-1.1 -2.5,-1.1 0,-1.1 26.95,-1.1 ; -21.63,-492.25 26.4,-492.25 ; -19.98,-492.8 24.2,-492.8 ; -17.78,-493.35 22,-493.35 ; -16.13,-0.55 -2.5,-0.55 0,-0.55 18.7,-0.55 ; -15.58,-493.9 19.25,-493.9 ; -13.38,-494.45 15.95,-494.45 ; -10.63,-495 12.1,-495 ; -7.33,-495.55 7.7,-495.55 ; -1.83,0 0,0 ; -0.73,-496.1 -0.55,-496.1
Top Overlay:
  drawing of 2158 lines, arcs and shapes, not listed

## AMS1117 [mil]
pads (4):
  oct 65x150 smd: 1(0.03,-0.06)
  oval 65x150 smd: 2(100.03,-0.06) 3(200.03,-0.06)
  rect 100x100 smd: 4(100.03,239.94)
Top Overlay:
  lines w7.87: -25.97,232.94 -25.97,132.94 ; -24.97,99.94 -24.97,124.94 ; -24.3,236.27 34.03,252.94 74.03,292.94 134.03,292.94 154.03,252.94 234.03,232.94 234.03,112.94 ; 25.03,99.94 25.03,124.94 ; 75.03,99.94 75.03,124.94 ; 125.03,99.94 125.03,124.94 ; 175.03,99.94 175.03,124.94 ; 225.03,99.94 225.03,124.94 ; -25.97,132.94 234.03,132.94 234.03,112.94 ; -25.97,132.94 -25.97,112.94 234.03,112.94
  text "1" at -5.97,172.94 h50

## BATM [mm]
pads (4):
  round 1.1 hole 1.1 unplated: 0(0,3.748)
  round 1.5 hole 1.5 unplated: 0(0.025,-3.752)
  oct 2.5x6 smd: 1(0,-8.602)
  oval 2.5x6 smd: 2(0,8.598)
Top Overlay:
  lines w0.178: -6.6,-3.902 -7.2,-4.502 -7.2,-7.502 -2,-7.502 ; -3.815,-3.171 cw(c0,-0.002) -3.812,3.171 ; -0.833,-7.576 cw(c0,-0.002) -7.62,-0.002 cw(c0,-0.002) -0.833,7.573 ; 0.833,-7.576 ccw(c0,-0.002) 0.833,7.573 ; 2,-7.502 7.2,-7.502 7.2,-4.502 6.625,-3.927 ; 3.81,-3.177 ccw(c0,-0.002) 3.812,3.171

## BELL-5 [mm]
pads (2):
  rect 1.2x1.2 hole 0.7: 1(0,0)
  round 1.2 hole 0.7: 2(5.08,0)
Top Overlay:
  circle w0.254: c2.54,0 r4.51
  lines w0.254: -0.635,1.778 0.635,1.778 ; 0,1.143 0,2.413

## BTN8.5*8.5 [mm]
pads (6):
  rect 1.5x1.5 hole 0.8: 1(0,0)
  round 1.5 hole 0.8: 2(0,-2.54) 3(0,-5.08) 4(5.4,-5.08) 5(5.4,-2.54) 6(5.4,0)
Top Overlay:
  circle w0.254: c2.667,-2.54 r1.6
  lines w0.254: -1.55,-6.79 -1.55,1.71 6.95,1.71 6.95,-6.79 -1.55,-6.79

## CC6.56.5 [mm]
pads (2):
  rect 3.2x1.5 smd: 1(-2.794,0) 2(2.8,0)
Top Overlay:
  circle w0.2: c0,0 r2.8
  lines w0.2: -3.302,-1.905 -3.302,1.905 -1.905,3.302 3.302,3.302 3.302,-3.302 -1.905,-3.302 -3.302,-1.905

## db2*17-4.3 [mm]
pads (40):
  rect 1.2x1.2 hole 0.7: 1(-0.002,0.006)
  round 1.2 hole 0.7: 2(-0.002,2.546) 3(2.538,0.006) 4(2.538,2.546) 5(5.08,0) 6(5.078,2.546) 7(7.62,0) 8(7.62,2.54) 9(10.158,0.006) 10(10.158,2.546) 11(12.698,0.006) 12(12.698,2.546) 13(15.238,0.006) 14(15.238,2.546) 15(17.778,0.006) 16(17.778,2.546) 17(20.318,0.006) 18(20.318,2.546) 19(22.858,0.006) 20(22.858,2.546) 21(25.398,0.006) 22(25.398,2.546) 23(27.938,0.006) 24(27.938,2.546) 25(30.478,0.006) 26(30.478,2.546) 27(33.018,0.006) 28(33.018,2.546) 29(35.558,0.006) 30(35.558,2.546) 31(38.098,0.006) 32(38.098,2.546) 33(40.638,0.006) 34(40.638,2.546)
  round 3.1 hole 3.1: ""(-7.125,-109.596) ""(-3.81,-88.18) ""(-2.037,-74.525) ""(42.54,-74.525) ""(44.82,-88.12) ""(47.925,-109.596)
Top Overlay:
  lines w0.203: -10.403,-111.887 51.192,-111.887 ; -10.38,5.334 51.245,5.334 ; -1.27,1.27 1.27,1.27 1.27,-1.23 1.32,-1.28 -1.26,-1.28 -1.27,-1.27 -1.27,3.82 41.91,3.82 41.91,-1.26 ; 1.21,-1.28 41.91,-1.28 ; 41.91,-1.25 41.91,-0.95
  text "D14" at 22.023,4.106 h0.71
  text "RS" at -0.477,4.106 h0.71
  text "CS" at -0.51,-2.28 h0.71
  text "WR" at 2.03,-2.28 h0.71
  text "RST" at 4.189,-2.28 h0.71
  text "D1" at 7.237,-2.28 h0.71
  text "D2" at 7.148,4.106 h0.71
  text "D3" at 9.65,-2.28 h0.71
  text "D4" at 9.648,4.106 h0.71
  text "D5" at 12.19,-2.28 h0.71
  text "D6" at 12.273,4.106 h0.71
  text "D8" at 14.398,4.106 h0.71
  text "D9" at 17.143,-2.28 h0.71
  text "D12" at 19.523,4.106 h0.71
  text "D15" at 24.636,-2.28 h0.71
  text "VDD" at 29.589,-2.28 h0.71
  text "VDD" at 32.148,4.106 h0.71
  text "GND" at 29.523,4.106 h0.71
  text "VDD" at 27.023,4.106 h0.71
  text "D10" at 16.898,4.106 h0.71
  text "D0" at 4.648,4.106 h0.71
  text "RD" at 2.023,4.106 h0.71
  text "GND" at 24.523,4.106 h0.71
  text "GND" at 32.002,-2.28 h0.71
  text "D11" at 19.556,-2.28 h0.71
  text "PEN" at 37.209,-2.28 h0.71
  text "CLK" at 39.648,4.106 h0.71
  text "MOSI" at 34.398,4.106 h0.71
  text "MO" at 37.648,4.106 h0.71
  text "TCS" at 39.749,-2.28 h0.71
  text "MISO" at 34.288,-2.28 h0.71
  text "BL" at 27.557,-2.28 h0.71
  text "D14" at 22.025,4.1 h0.71
  text "RS" at -0.475,4.1 h0.71
  text "CS" at -0.508,-2.286 h0.71
  text "WR" at 2.032,-2.286 h0.71
  text "RST" at 4.191,-2.286 h0.71
  text "D1" at 7.239,-2.286 h0.71
  text "D2" at 7.15,4.1 h0.71
  text "D3" at 9.652,-2.286 h0.71
  text "D4" at 9.65,4.1 h0.71
  text "D5" at 12.192,-2.286 h0.71
  text "D6" at 12.275,4.1 h0.71
  text "D8" at 14.4,4.1 h0.71
  text "D9" at 17.145,-2.286 h0.71
  text "D13" at 22.025,-2.296 h0.71
  text "D12" at 19.525,4.1 h0.71
  text "D15" at 24.638,-2.286 h0.71
  text "VDD" at 29.591,-2.286 h0.71
  text "VDD" at 32.15,4.1 h0.71
  text "GND" at 29.525,4.1 h0.71
  text "VDD" at 27.025,4.1 h0.71
  text "D10" at 16.9,4.1 h0.71
  text "D0" at 4.65,4.1 h0.71
  text "RD" at 2.025,4.1 h0.71
  text "GND" at 24.525,4.1 h0.71
  text "GND" at 32.004,-2.286 h0.71
  text "D11" at 19.558,-2.286 h0.71
  text "PEN" at 37.211,-2.286 h0.71
  text "CLK" at 39.65,4.1 h0.71
  text "MOSI" at 34.4,4.1 h0.71
  text "MO" at 37.65,4.1 h0.71
  text "TCS" at 39.751,-2.286 h0.71
  text "MISO" at 34.29,-2.286 h0.71
  text "BL" at 27.559,-2.286 h0.71
  text "D7" at 14.351,-2.286 h0.71

## DC10B [mil]
pads (3):
  oval 80x180 hole 50 slot 110 at 90 deg: 1(419.09,170)
  oval 80x180 hole 50 slot 120 at 90 deg: 2(175,170)
  oval 180x80 hole 50 slot 110 at 0 deg: 3(297.05,-26.85)
Top Overlay:
  lines w6: 0,50 465,50 ; 0,300 460.13,300 464.25,300 ; 5,350 -15,350 -137.8,350 -137.8,0 0,0 ; 169,0 0,0 ; 173.37,0.16 cw(c231,-10) 231,48.52 361,48.52 cw(c361,-10) 418.63,0.16 ; 420,0 465,0 465,80 ; 464.83,82.38 cw(c420,120) 361.48,120 361.48,225 cw(c420,225) 464.83,262.62 465,350 0,350 0,0 ; 233.52,225 ccw(c175,225) 116.48,225 116.48,120 ccw(c175,120) 233.52,120 233.52,225 ; 233.52,225 233.52,225

## DHT11 [mm]
pads (4):
  round 1.3 hole 0.7: 1(0,0) 2(2.54,0) 3(5.08,0) 4(7.62,0)
Top Overlay:
  lines w0.203: -2.5,-3.5 7.62,-3.5 10.12,-3.5 ; -2.5,-3.46 -2.5,0 -2.5,2.5 7.62,2.5 10.12,2.5 10.12,0 10.12,-3.46 ; 0.635,-3.5 0.635,-1.905 1.905,-1.905 1.905,-3.5 ; 3.175,-3.5 3.175,-1.905 4.445,-1.905 4.445,-3.5 ; 5.715,-3.5 5.715,-1.905 6.985,-1.905 6.985,-3.5

## DIODE_3*5.3 [mm]
pads (2):
  rect 2.3x1.75 smd: 1(-2.286,0) 2(2.159,0)
Top Overlay:
  lines w0.1: -2.667,-1.016 -2.667,-1.5 2.54,-1.5 2.54,-1.016 ; -2.667,1.016 -2.667,1.5 2.54,1.5 2.54,1.016 ; 0.381,-0.889 0.381,0.889 ; 1.651,-1.5 1.651,-1.016 ; 1.651,1.016 1.651,1.5 ; -0.508,-0.889 0.381,0 -0.508,0.889 -0.508,-0.889

## DIODE_SOP [mm]
pads (2):
  rect 1.5x1.3 smd: 1(0,0) 2(3.556,0)
Top Overlay:
  rectangle: 2.286,-1.016 2.559,1.016
  lines w0.254: 1.143,-0.889 2.032,0 1.143,0.889 1.143,-0.889

## HDR1X4 [mm]
pads (4):
  rect 1.5x1.5 hole 0.889: 1(0,0)
  round 1.5 hole 0.889: 2(2.54,0) 3(5.08,0) 4(7.62,0)
Top Overlay:
  lines w0.2: -1.27,-1.27 8.89,-1.27 8.89,1.27 -1.27,1.27 -1.27,-1.27

## HDR2X2 [mm]
pads (4):
  rect 1.5x1.5 hole 0.9: 1(0,0)
  round 1.5 hole 0.9: 2(0,2.54) 3(2.54,0) 4(2.54,2.54)
Top Overlay:
  lines w0.2: -1.27,-1.27 3.81,-1.27 3.81,3.81 -1.27,3.81 -1.27,-1.27